# Altium schematic symbol library TPS3851H50EQDRBRQ1.SchLib: 1 symbol
Pins are listed as number, name and electrical type; pins without a type are passive.

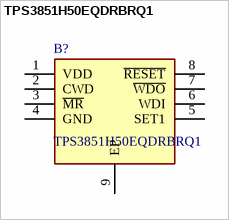
[diagram p0: symbol TPS3851H50EQDRBRQ1]

## TPS3851H50EQDRBRQ1
designator B?
Automotive High-Accuracy Voltage Supervisor With Integrated Watchdog Timer; Manufacturer_Name: Texas Instruments; Geometry.Height: 1mm; Manufacturer_Part_Number: TPS3851H50EQDRBRQ1; Mouser Part Number: 595-S3851H50EQDRBRQ1; Mouser Price/Stock: https://www.mouser.com/Search/Refine.aspx?Keyword=595-S3851H50EQDRBRQ1; Arrow Part Number: TPS3851H50EQDRBRQ1; Arrow Price/Stock: https://www.arrow.com/en/products/tps3851h50eqdrbrq1/texas-instruments?utm_currency=USD&region=nac; Datasheet Link: http://www.ti.com/lit/gpn/tps3851-q1
footprint SON65P300X300X100-9N-D
pins: 1 VDD, 2 CWD, 3 ~{MR}, 4 GND, 5 SET1, 6 WDI, 7 ~{WDO}, 8 ~{RESET}, 9 EP